# Altium schematic symbol library Display_Sch.SchLib: 10 symbols
Pins are listed as number, name and electrical type; pins without a type are passive.

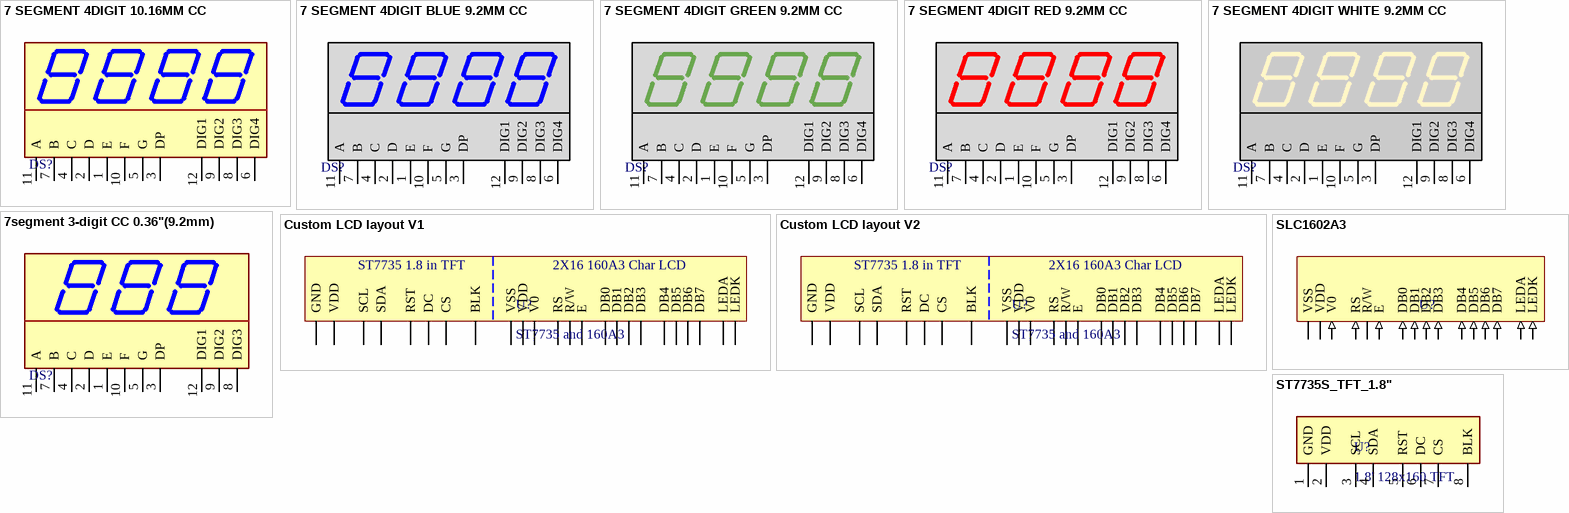
[diagram p0: symbols 7 SEGMENT 4DIGIT 10.16MM CC to ST7735S_TFT_1.8"]

## 7 SEGMENT 4DIGIT 10.16MM CC
designator DS?, comment 4-Digit CC  (value not drawn)
7segment 4-digit Common Cathode 10.16mm; size: 10.16; ComponentLink1Description: Link 1; ComponentLink1URL: https://ozdisan.com/tfts-lcds-and-led-displays/led-display-modules/character-and-numeric-led-displays/E3-4040-CUR-2/14072
footprint 7 SEGMENT 4DIGIT 10.16MM
pins: 1 E, 2 D, 3 DP, 4 C, 5 G, 6 DIG4, 7 B, 8 DIG3, 9 DIG2, 10 F, 11 A, 12 DIG1

## 7 SEGMENT 4DIGIT BLUE 9.2MM CC
designator DS?, comment Blue  (value not drawn)
7segment 4-digit Common Cathode 9.2mm; Digit Size: 9.2mm; ComponentLink1Description: Link; ComponentLink1URL: https://ozdisan.com/tfts-lcds-and-led-displays/led-display-modules/character-and-numeric-led-displays/E1-4036-CUG-1/15986; Width: 14mm; Height: 7.2mm; Color: Blue; Common Pin: Cathode; Length: 30mm
footprint 7SEGMENT 4DIGIT BLUE 9.2MM
pins: 1 E, 2 D, 3 DP, 4 C, 5 G, 6 DIG4, 7 B, 8 DIG3, 9 DIG2, 10 F, 11 A, 12 DIG1

## 7 SEGMENT 4DIGIT GREEN 9.2MM CC
designator DS?, comment Green  (value not drawn)
7segment 4-digit Common Cathode 9.2mm; Digit Size: 9.2mm; ComponentLink1Description: Link; ComponentLink1URL: https://ozdisan.com/tfts-lcds-and-led-displays/led-display-modules/character-and-numeric-led-displays/E1-4036-CUG-1/15986; Width: 14mm; Height: 7.2mm; Color: Green; Common Pin: Cathode; Length: 30mm
footprint 7SEGMENT 4DIGIT GREEN 9.2MM
pins: 1 E, 2 D, 3 DP, 4 C, 5 G, 6 DIG4, 7 B, 8 DIG3, 9 DIG2, 10 F, 11 A, 12 DIG1

## 7 SEGMENT 4DIGIT RED 9.2MM CC
designator DS?, comment Red  (value not drawn)
7segment 4-digit Common Cathode 9.2mm; Digit Size: 9.2mm; ComponentLink1Description: Link; ComponentLink1URL: https://ozdisan.com/tfts-lcds-and-led-displays/led-display-modules/character-and-numeric-led-displays/E1-4036-CUG-1/15986; Width: 14mm; Height: 7.2mm; Color: Red; Common Pin: Cathode; Length: 30mm
footprint 7SEGMENT 4DIGIT RED 9.2MM
pins: 1 E, 2 D, 3 DP, 4 C, 5 G, 6 DIG4, 7 B, 8 DIG3, 9 DIG2, 10 F, 11 A, 12 DIG1

## 7 SEGMENT 4DIGIT WHITE 9.2MM CC
designator DS?, comment White  (value not drawn)
7segment 4-digit Common Cathode 9.2mm; Digit Size: 9.2mm; ComponentLink1Description: Link; ComponentLink1URL: https://ozdisan.com/tfts-lcds-and-led-displays/led-display-modules/character-and-numeric-led-displays/E1-4036-CUG-1/15986; Width: 14mm; Height: 7.2mm; Color: White; Common Pin: Cathode; Length: 30mm
footprint 7SEGMENT 4DIGIT WHITE 9.2MM
pins: 1 E, 2 D, 3 DP, 4 C, 5 G, 6 DIG4, 7 B, 8 DIG3, 9 DIG2, 10 F, 11 A, 12 DIG1

## 7segment 3-digit CC 0.36"(9.2mm)
designator DS?, comment 3-Digit CC  (value not drawn)
7segment 3-digit Common Cathode 0.36"(9.2mm); size: 9.2mm
footprint 7segment 3digit 0.36"(9.2mm)
pins: 1 E, 2 D, 3 DP, 4 C, 5 G, 7 B, 8 DIG3, 9 DIG2, 10 F, 11 A, 12 DIG1

## Custom LCD layout V1
designator U?, comment ST7735 and 160A3
1.8 inch ST7735 TFT LCD panel with 16X2 Character LCD panel. / Both of them in same location.
footprint Custom LCD PCB layout V1
pins: 1 GND, 2 VDD, 3 SCL, 4 SDA, 5 RST, 6 DC, 7 CS, 8 BLK, 9 VSS, 10 VDD, 11 V0, 12 RS, 13 R/W, 14 E, 15 DB0, 16 DB1, 17 DB2, 18 DB3, 19 DB4, 20 DB5, 21 DB6, 22 DB7, 23 LEDA, 24 LEDK
text: ST7735 1.8 in TFT; 2X16 160A3 Char LCD

## Custom LCD layout V2
designator U?, comment ST7735 and 160A3
1.8 inch ST7735 TFT LCD panel with 16X2 Character LCD panel. / Both of them in same location.
footprint Custom LCD PCB layout V2
pins: 1 GND, 2 VDD, 3 SCL, 4 SDA, 5 RST, 6 DC, 7 CS, 8 BLK, 9 VSS, 10 VDD, 11 V0, 12 RS, 13 R/W, 14 E, 15 DB0, 16 DB1, 17 DB2, 18 DB3, 19 DB4, 20 DB5, 21 DB6, 22 DB7, 23 LEDA, 24 LEDK
text: ST7735 1.8 in TFT; 2X16 160A3 Char LCD

## SLC1602A3
designator U?
2x16 Charecter Lcd. Top left pin placement.
footprint 2x16 Lcd Top Left 36x80mm
pins: 1 VSS (power), 2 VDD (power), 3 V0 (in), 4 RS (in), 5 R/W (io), 6 E (in), 7 DB0 (in), 8 DB1 (in), 9 DB2 (in), 10 DB3 (in), 11 DB4 (in), 12 DB5 (in), 13 DB6 (in), 14 DB7 (in), 15 LEDA (in), 16 LEDK (in)

## ST7735S_TFT_1.8"
designator U?, comment 1.8' 128x160 TFT
1.8' 128X160 TFT LCD panel. / Driver IC: ST7735s; V supply: 3.3V; Resulotion: 128*160; Dimensions: 35X55; Controller ic: ST7735S; ComponentLink1Description: Link; ComponentLink1URL: *
footprint ST7735S_1.8_128x160 (RGB TFT LCD DISPLAY MODULE)
pins: 1 GND, 2 VDD, 3 SCL, 4 SDA, 5 RST, 6 DC, 7 CS, 8 BLK